# Altium schematic symbol library XPH6R30ANB,L1XHQ.SchLib: 1 symbol
Pins are listed as number, name and electrical type; pins without a type are passive.

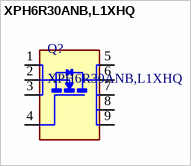
[diagram p0: symbol XPH6R30ANB,L1XHQ]

## XPH6R30ANB,L1XHQ
designator Q?
N-Channel 100 V 45A (Ta) 960mW (Ta), 132W (Tc) Surface Mount 8-SOP Advance (5x5); Manufacturer: Toshiba; Vgs(max): 20V; Vds(max): 100V; Rds(on): 5.3m; PN: XPH6R30ANB,L1XHQ; Id(max): 45A; Footprint: SOP-Advance-8; Package: SOP-Advance-8; Supplier 1: Digi-Key; Supplier Part Number 1: 264-XPH6R30ANBL1XHQCT-ND
footprint SOP-Advance-8 (Package for TPH6R30ANL,L1Q)
pins: 1 S, 2 S, 3 S, 4 G, 5 D, 6 D, 7 D, 8 D, 9 D